# EAGLE library part DUE(NORMAL) (library DUElib130425)
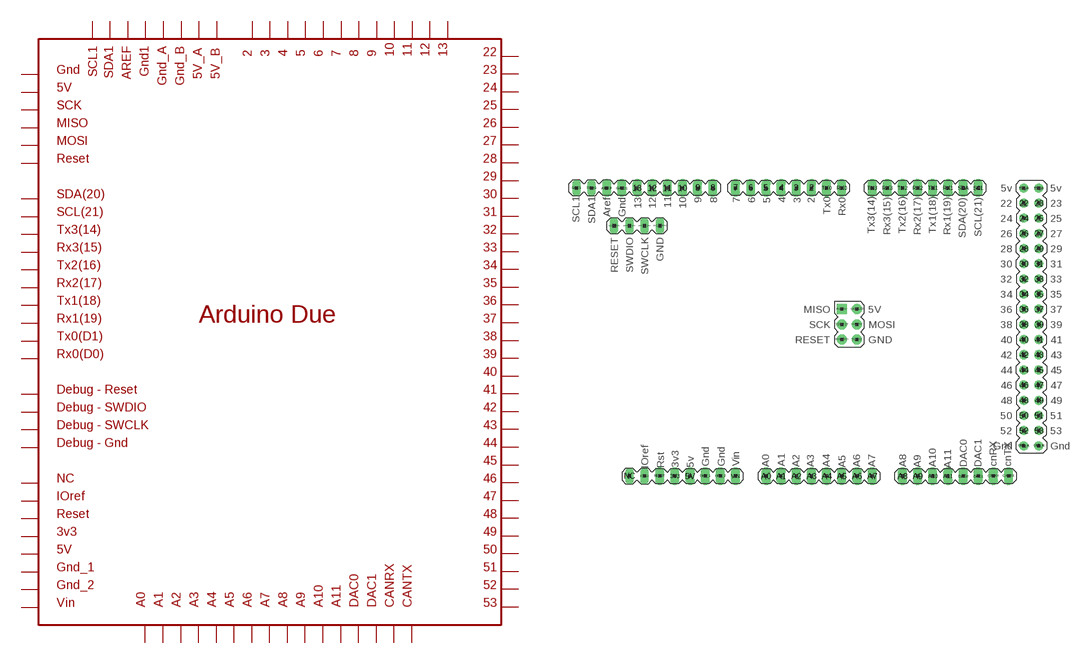
[diagram p0: symbol with the pads of DUE(NORMAL); footprint DUE(NORMAL)]

Designator prefix MCU

## DUE(NORMAL)  [DUE(NORMAL)]
2  2
3  3
3V3  3V3
4  4
5  5
5V  5V
5V_A  5V_A
5V_B  5V_B
5V_ICSP  5V_ICSP
6  6
7  7
8  8
9  9
10  10
11  11
12  12
13  13
22  22
23  23
24  24
25  25
26  26
27  27
28  28
29  29
30  30
31  31
32  32
33  33
34  34
35  35
36  36
37  37
38  38
39  39
40  40
41  41
42  42
43  43
44  44
45  45
46  46
47  47
48  48
49  49
50  50
51  51
52  52
53  53
A0  A0
A1  A1
A2  A2
A3  A3
A4  A4
A5  A5
A6  A6
A7  A7
A8  A8
A9  A9
A10  A10
A11  A11
AREF  AREF
CANRX  CANRX
CANTX  CANTX
DAC0  DAC0
DAC1  DAC1
GND1  GND1
GND_1  GND_1
GND_2  GND_2
GND_A  GND_A
GND_B  GND_B
GND_DEBUG  GND_DEBUG
GND_ICSP  GND_ICSP
IOREF  IOREF
MISO_ICSP  MISO_ICSP
MOSI_ICSP  MOSI_ICSP
NC  NC
RESET  RESET
RESET_DEBUG  RESET_DEBUG
RESET_ICSP  RESET_ICSP
RX0  RX0
RX1  RX1
RX2  RX2
RX3  RX3
SCK_ICSP  SCK_ICSP
SCL  SCL
SCL1  SCL1
SDA  SDA
SDA1  SDA1
SWCLK_DEBUG  SWCLK_DEBUG
SWDIO_DEBUG  SWDIO_DEBUG
TX0  TX0
TX1  TX1
TX2  TX2
TX3  TX3
VIN  VIN

## Footprint DUE(NORMAL) (pad centres in mm)
drill 1 long: 2 -16.51,30.48; 3 -19.05,30.48; 3V3 -39.37,-17.78; 4 -21.59,30.48; 5 -24.13,30.48; 5V -36.83,-17.78; 6 -26.67,30.48; 7 -29.21,30.48; 8 -33.02,30.48; 9 -35.56,30.48; 10 -38.1,30.48; 11 -40.64,30.48; 12 -43.18,30.48; 13 -45.72,30.48; A0 -24.13,-17.78; A1 -21.59,-17.78; A2 -19.05,-17.78; A3 -16.51,-17.78; A4 -13.97,-17.78; A5 -11.43,-17.78; A6 -8.89,-17.78; A7 -6.35,-17.78; A8 -1.27,-17.78; A9 1.27,-17.78; A10 3.81,-17.78; A11 6.35,-17.78; AREF -50.8,30.48; CANRX 13.97,-17.78; CANTX 16.51,-17.78; DAC0 8.89,-17.78; DAC1 11.43,-17.78; GND1 -48.26,30.48; GND_1 -34.29,-17.78; GND_2 -31.75,-17.78; RESET -41.91,-17.78; RX0 -11.43,30.48; RX1 6.35,30.48; RX2 1.27,30.48; RX3 -3.81,30.48; SCL 11.43,30.48; SDA 8.89,30.48; TX0 -13.97,30.48; TX1 3.81,30.48; TX2 -1.27,30.48; TX3 -6.35,30.48; VIN -29.21,-17.78
drill 1: 5V_A 19.05,30.48; 5V_B 21.59,30.48; 22 19.05,27.94; 23 21.59,27.94; 24 19.05,25.4; 25 21.59,25.4; 26 19.05,22.86; 27 21.59,22.86; 28 19.05,20.32; 29 21.59,20.32; 30 19.05,17.78; 31 21.59,17.78; 32 19.05,15.24; 33 21.59,15.24; 34 19.05,12.7; 35 21.59,12.7; 36 19.05,10.16; 37 21.59,10.16; 38 19.05,7.62; 39 21.59,7.62; 40 19.05,5.08; 41 21.59,5.08; 42 19.05,2.54; 43 21.59,2.54; 44 19.05,0; 45 21.59,0; 46 19.05,-2.54; 47 21.59,-2.54; 48 19.05,-5.08; 49 21.59,-5.08; 50 19.05,-7.62; 51 21.59,-7.62; 52 19.05,-10.16; 53 21.59,-10.16; GND_A 19.05,-12.7; GND_B 21.59,-12.7
drill 0.7 pad 1.676: 5V_ICSP -8.89,5.08; GND_ICSP -8.89,10.16; MOSI_ICSP -8.89,7.62; RESET_ICSP -11.43,5.08; SCK_ICSP -11.43,7.62
drill 0.8 pad 1.422 long: GND_DEBUG -41.91,24.13; IOREF -44.45,-17.78; NC -46.99,-17.78; RESET_DEBUG -49.53,24.13; SCL1 -55.88,30.48; SDA1 -53.34,30.48; SWCLK_DEBUG -44.45,24.13; SWDIO_DEBUG -46.99,24.13
drill 0.7 pad 1.676 square: MISO_ICSP -11.43,10.16